# Altium footprint library Keebs.PcbLib: 219 footprints (part 2 of 14)
Each footprint in its own frame and in the unit in brackets; x right, y up, seen from the top. Pads: shape width x height; smd on the part's side, far side on the other; paste and mask are expansions set on the pad; w line width, h text height; cw(c..) or ccw(c..) is an arc to the next point about the centre after c.
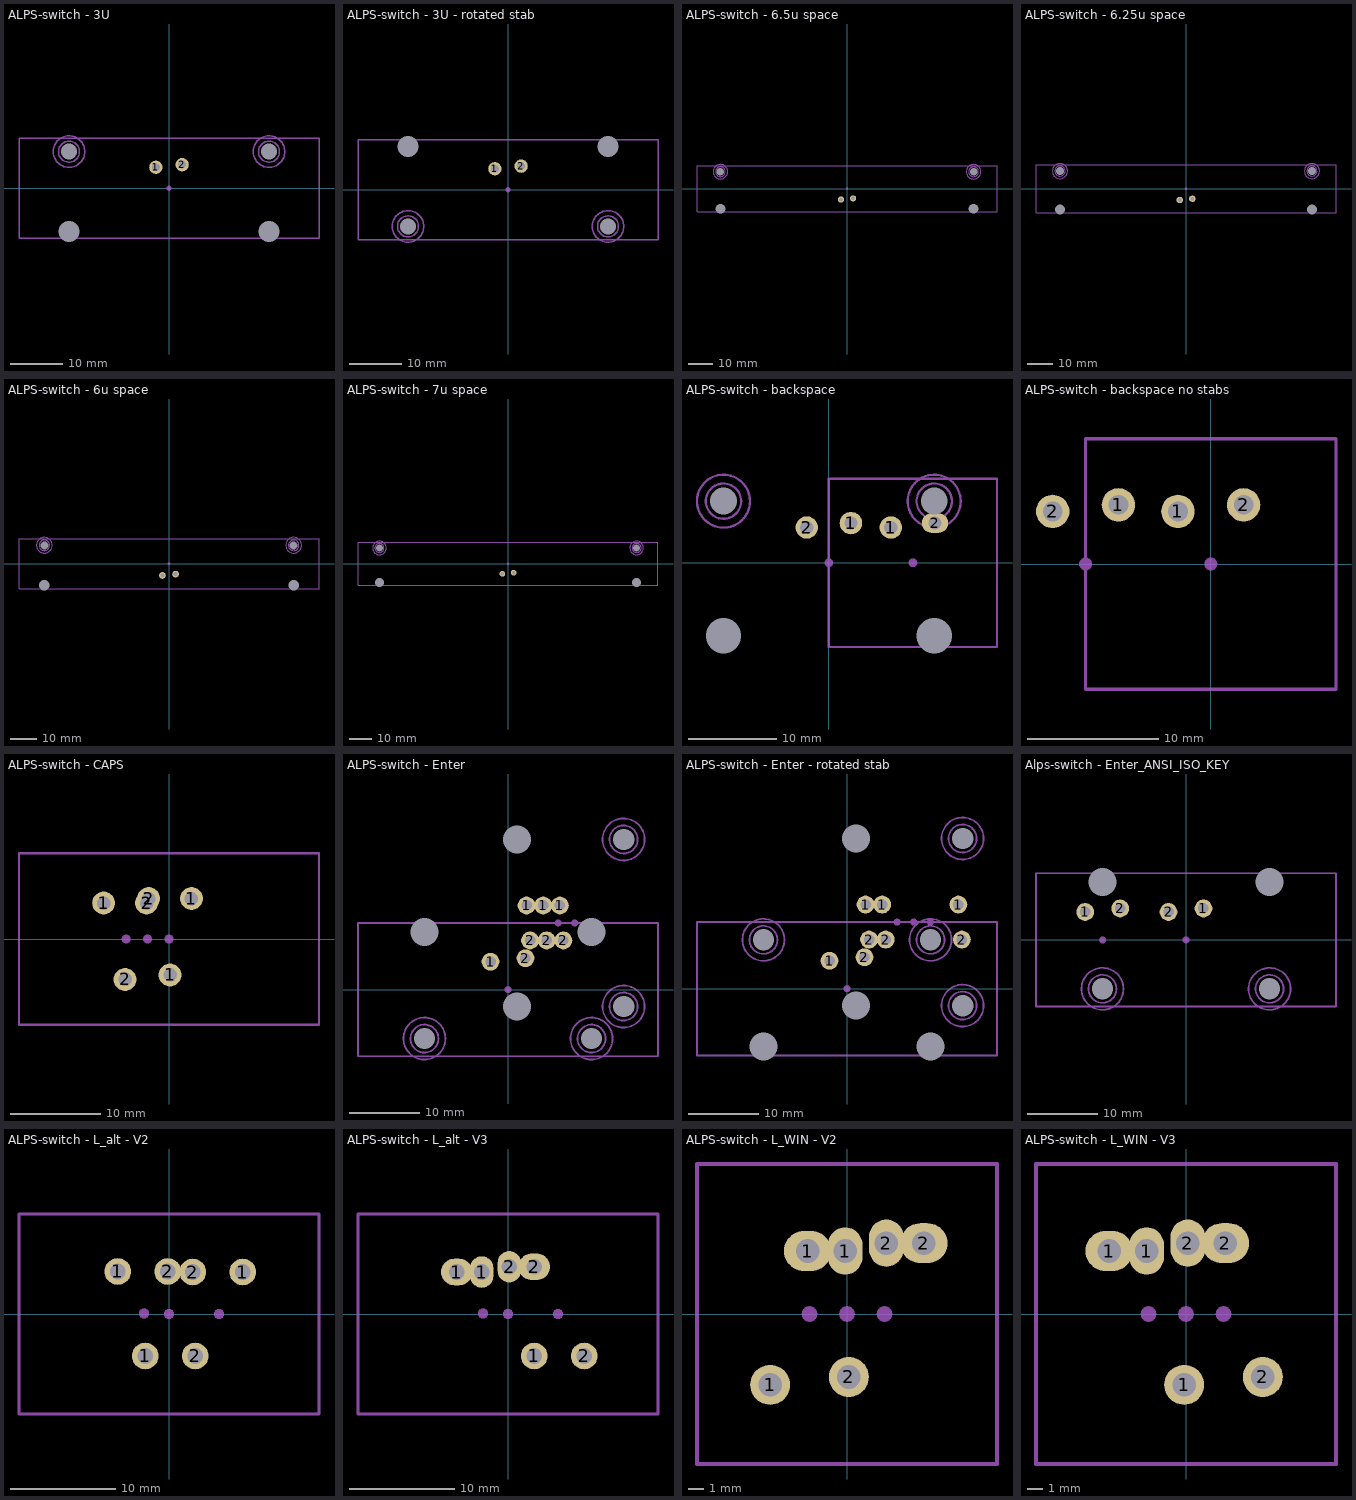
[diagram p1: the footprints below, top view; thin cyan lines are the x and y axes]

## ALPS-switch - 3U [mm]
pads (7):
  round 2.54 hole 1.5 mask-0.5: 1(-2.5,4) 2(2.5,4.5)
  round 1.524 hole 4 unplated: ""(-19.05,-8.255) ""(19.05,-8.255)
  round 1.524 hole 3.048 unplated: ""(-19.05,6.985) ""(19.05,6.985)
  round 1 on Mech13: ""(0,0)
Mechanical 13:
  lines w0.254: -28.575,-9.525 28.575,-9.525 28.575,9.525 -28.575,9.525 -28.575,-9.525
  text ".Designator" at -3.825,-3.375 h0.7
Mechanical 15:
  circle w0.254: c-19.05,6.985 r3
  circle w0.254: c-19.05,6.985 r2
  circle w0.254: c19.05,6.985 r3
  circle w0.254: c19.05,6.985 r2

## ALPS-switch - 3U - rotated stab [mm]
pads (7):
  round 2.54 hole 1.5 mask-0.5: 1(-2.5,4) 2(2.5,4.5)
  round 1.524 hole 3.048 unplated: ""(-19.05,-6.985) ""(19.05,-6.985)
  round 1.524 hole 4 unplated: ""(-19.05,8.255) ""(19.05,8.255)
  round 1 on Mech13: ""(0,0)
Mechanical 13:
  lines w0.254: -28.575,-9.525 28.575,-9.525 28.575,9.525 -28.575,9.525 -28.575,-9.525
  text ".Designator" at -3.825,-3.375 h0.7
Mechanical 15:
  circle w0.254: c19.05,-6.985 r3
  circle w0.254: c19.05,-6.985 r2
  circle w0.254: c-19.05,-6.985 r3
  circle w0.254: c-19.05,-6.985 r2

## ALPS-switch - 6.5u space [mm]
pads (7):
  round 2.54 hole 1.5 mask-0.5: 1(2.5,-4) 2(-2.5,-4.5)
  round 1.524 hole 4 unplated: ""(-52.25,-8.255) ""(52.25,-8.255)
  round 1.524 hole 3.048 unplated: ""(-52.25,6.985) ""(52.25,6.985)
  round 1 on Mech13: ""(0,0)
Mechanical 13:
  lines w0.254: -61.912,-9.525 -61.912,9.525 61.912,9.525 61.912,-9.525 -61.912,-9.525
  text ".Designator" at -3.575,-3.7 h0.7
Mechanical 15:
  circle w0.254: c-52.25,6.985 r3
  circle w0.254: c-52.25,6.985 r2
  circle w0.254: c52.25,6.985 r3
  circle w0.254: c52.25,6.985 r2

## ALPS-switch - 6.25u space [mm]
pads (7):
  round 2.54 hole 1.5 mask-0.5: 1(2.5,-4) 2(-2.5,-4.5)
  round 1.524 hole 4 unplated: ""(-50,-8.255) ""(50,-8.255)
  round 1.524 hole 3.048 unplated: ""(-50,6.985) ""(50,6.985)
  round 1 on Mech13: ""(0,0)
Mechanical 13:
  lines w0.254: -59.531,-9.525 -59.531,9.525 59.531,9.525 59.531,-9.525 -59.531,-9.525
  text ".Designator" at -3.575,-3.7 h0.7
Mechanical 15:
  circle w0.254: c50,6.985 r2
  circle w0.254: c50,6.985 r3
  circle w0.254: c-50,6.985 r2
  circle w0.254: c-50,6.985 r3

## ALPS-switch - 6u space [mm]
pads (7):
  round 2.54 hole 1.5 mask-0.5: 1(2.5,-4) 2(-2.5,-4.5)
  round 1.524 hole 4 unplated: ""(-47.5,-8.255) ""(47.5,-8.255)
  round 1.524 hole 3.048 unplated: ""(-47.5,6.985) ""(47.5,6.985)
  round 1 on Mech13: ""(0,0)
Mechanical 13:
  lines w0.254: -57.15,-9.525 57.15,-9.525 57.15,9.525 -57.15,9.525 -57.15,-9.525
  text ".Designator" at -3.575,-3.7 h0.7
Mechanical 15:
  circle w0.254: c-47.5,6.985 r3
  circle w0.254: c-47.5,6.985 r2
  circle w0.254: c47.5,6.985 r3
  circle w0.254: c47.5,6.985 r2

## ALPS-switch - 7u space [mm]
pads (7):
  round 2.54 hole 1.5 mask-0.5: 1(2.5,-4) 2(-2.5,-4.5)
  round 1.524 hole 4 unplated: ""(-57.15,-8.255) ""(57.15,-8.255)
  round 1.524 hole 3.048 unplated: ""(-57.15,6.985) ""(57.15,6.985)
  round 1 on Mech13: ""(0,0)
Mechanical 13:
  lines w0.254: -66.675,-9.525 -66.675,9.525 66.675,9.525 66.675,-9.525 -66.675,-9.525
  text ".Designator" at -3.575,-3.7 h0.7
Mechanical 15:
  circle w0.254: c57.15,6.985 r2
  circle w0.254: c57.15,6.985 r3
  circle w0.254: c-57.15,6.985 r2
  circle w0.254: c-57.15,6.985 r3

## ALPS-switch - backspace [mm]
pads (10):
  round 2.54 hole 1.5 mask-0.5: 1(2.5,4.5) 1(7.025,4) 2(-2.5,4)
  oval 3x2.2 hole 1.5 mask-0.7: 2(12.025,4.5)
  round 1.524 hole 4 unplated: ""(-11.938,-8.255) ""(11.938,-8.255)
  round 1.524 hole 3.048 unplated: ""(-11.938,6.985) ""(11.938,6.985)
  round 1 on Mech13: ""(0,0) ""(9.525,0)
Mechanical 13:
  lines w0.254: 0,-9.525 0,9.525 19.05,9.525 19.05,-9.525 0,-9.525
  text ".Designator" at 6.65,3.75 h0.7
Mechanical 15:
  circle w0.254: c-11.938,6.985 r3
  circle w0.254: c-11.938,6.985 r2
  circle w0.254: c11.938,6.985 r3
  circle w0.254: c11.938,6.985 r2

## ALPS-switch - backspace no stabs [mm]
pads (6):
  round 2.54 hole 1.5 mask-0.5: 1(-7.025,4.5) 1(-2.5,4) 2(-12.025,4) 2(2.5,4.5)
  round 1 on Mech13: ""(-9.525,0) ""(0,0)
Mechanical 13:
  lines w0.254: -9.525,-9.525 9.525,-9.525 9.525,9.525 -9.525,9.525 -9.525,-9.525
  text ".Designator" at -2.875,3.75 h0.7

## ALPS-switch - CAPS [mm] "Footprint supports both common versions of stepped capslock"
pads (9):
  round 2.54 hole 1.5 mask-0.5: 1(-7.263,4) 1(0.119,-4) 1(2.5,4.5) 2(-4.881,-4.5) 2(-2.5,4) 2(-2.262,4.5)
  round 1 on Mech13: ""(-4.763,0) ""(-2.381,0) ""(0,0)
Mechanical 13:
  lines w0.254: -16.669,-9.525 16.669,-9.525 ; -16.669,-9.525 16.669,-9.525 ; -16.669,-9.525 -16.669,9.525 16.669,9.525 16.669,-9.525
  text ".Designator" at -7.85,-7.5 h0.7

## ALPS-switch - Enter [mm]
pads (20):
  round 2.54 hole 1.5 mask-0.5: 1(-2.5,4) 1(2.649,12.03) 1(5.03,12.03) 1(7.411,12.03) 2(2.5,4.5) 2(3.149,7.03) 2(5.53,7.03) 2(7.911,7.03)
  round 1.524 hole 3.048 unplated: ""(-11.938,-6.985) ""(11.938,-6.985) ""(16.515,-2.408) ""(16.515,21.468)
  round 1.524 hole 4 unplated: ""(-11.938,8.255) ""(1.275,-2.408) ""(1.275,21.468) ""(11.938,8.255)
  round 1 on Mech13: ""(0,0) ""(7.149,9.53) ""(9.53,9.53) ""(11.911,9.53)
Mechanical 13:
  lines w0.254: -21.431,-9.525 -21.431,9.525 21.431,9.525 21.431,-9.525 -21.431,-9.525
  text ".Designator" at 7.85,1.8 h0.7
Mechanical 15:
  circle w0.254: c16.515,21.468 r2
  circle w0.254: c16.515,21.468 r3
  circle w0.254: c16.515,-2.408 r2
  circle w0.254: c16.515,-2.408 r3
  circle w0.254: c11.938,-6.985 r2
  circle w0.254: c11.938,-6.985 r3
  circle w0.254: c-11.938,-6.985 r2
  circle w0.254: c-11.938,-6.985 r3

## ALPS-switch - Enter - rotated stab [mm]
pads (20):
  round 2.54 hole 1.5 mask-0.5: 1(-2.5,4) 1(2.649,12.03) 1(5.03,12.03) 1(15.911,12.03) 2(2.5,4.5) 2(3.149,7.03) 2(5.53,7.03) 2(16.411,7.03)
  round 1.524 hole 4 unplated: ""(-11.938,-8.255) ""(1.275,-2.408) ""(1.275,21.468) ""(11.938,-8.255)
  round 1.524 hole 3.048 unplated: ""(-11.938,6.985) ""(11.938,6.985) ""(16.515,-2.408) ""(16.515,21.468)
  round 1 on Mech13: ""(0,0) ""(7.149,9.53) ""(9.53,9.53) ""(11.911,9.53)
Mechanical 13:
  lines w0.254: -21.431,-9.525 -21.431,9.525 21.431,9.525 21.431,-9.525 -21.431,-9.525
  text ".Designator" at 7.85,1.8 h0.7
Mechanical 15:
  circle w0.254: c11.938,6.985 r2
  circle w0.254: c11.938,6.985 r3
  circle w0.254: c16.515,-2.408 r2
  circle w0.254: c16.515,-2.408 r3
  circle w0.254: c16.515,21.468 r2
  circle w0.254: c16.515,21.468 r3
  circle w0.254: c-11.938,6.985 r2
  circle w0.254: c-11.938,6.985 r3

## Alps-switch - Enter_ANSI_ISO_KEY [mm]
pads (12):
  round 2.54 hole 1.5 mask-0.5: 1(-14.406,4) 1(2.5,4.5) 2(-9.406,4.5) 2(-2.5,4)
  round 1.524 hole 3.048 unplated: ""(-11.938,-6.985) ""(11.938,-6.985)
  round 1.524 hole 4 unplated: ""(-11.938,8.255) ""(11.938,8.255)
  round 1 on Mech13: ""(-11.906,0) ""(-11.906,0) ""(0,0) ""(0,0)
Mechanical 13:
  lines w0.254: -21.431,-9.525 21.431,-9.525 21.431,9.525 -21.431,9.525 -21.431,-9.525
  text ".Designator" at 7.85,1.8 h0.7
Mechanical 15:
  circle w0.254: c11.938,-6.985 r2
  circle w0.254: c11.938,-6.985 r3
  circle w0.254: c-11.938,-6.985 r2
  circle w0.254: c-11.938,-6.985 r3

## ALPS-switch - L_alt - V2 [mm]
pads (9):
  round 2.54 hole 1.5 mask-0.5: 1(-4.881,4.048) 1(-2.262,-4) 1(7.025,4) 2(-0.119,4.048) 2(2.262,4) 2(2.5,-4)
  round 1 on Mech13: ""(-2.381,0.048) ""(0,0) ""(4.763,0)
Mechanical 13:
  lines w0.254: -14.287,-9.525 14.287,-9.525 14.287,9.525 -14.287,9.525 -14.287,-9.525
  text ".Designator" at -10.775,-6.175 h0.7

## ALPS-switch - L_alt - V3 [mm]
pads (9):
  oval 3x2.54 hole 1.5 mask-0.7: 1(-4.881,4) 2(2.5,4.5)
  oval 2.2x3 hole 1.5 mask-0.7: 1(-2.5,4) 2(0.119,4.5)
  round 2.54 hole 1.5 mask-0.5: 1(2.5,-4) 2(7.263,-4)
  round 1 on Mech13: ""(-2.381,0.048) ""(0,0) ""(4.763,0)
Mechanical 13:
  lines w0.254: -14.287,-9.525 -14.287,9.525 14.287,9.525 14.287,-9.525 -14.287,-9.525
  text ".Designator" at -10.775,-6.175 h0.7

## ALPS-switch - L_WIN - V2 [mm]
pads (9):
  round 2.54 hole 1.5 mask-0.5: 1(-4.881,-4.5) 2(0.119,-4)
  oval 3x2.54 hole 1.5 mask-0.7: 1(-2.5,4) 2(4.881,4.5)
  oval 2.2x3 hole 1.5 mask-0.7: 1(-0.119,4) 2(2.5,4.5)
  round 1 on Mech13: ""(-2.381,0) ""(0,0) ""(2.381,0)
Mechanical 13:
  lines w0.254: -9.525,-9.525 9.525,-9.525 9.525,9.525 -9.525,9.525 -9.525,-9.525
  text ".Designator" at -4.225,-8.325 h0.7

## ALPS-switch - L_WIN - V3 [mm]
pads (9):
  oval 3x2.54 hole 1.5 mask-0.7: 1(-4.881,4) 2(2.5,4.5)
  oval 2.2x3 hole 1.5 mask-0.7: 1(-2.5,4) 2(0.119,4.5)
  round 2.54 hole 1.5 mask-0.5: 1(-0.119,-4.5) 2(4.881,-4)
  round 1 on Mech13: ""(-2.381,0) ""(0,0) ""(2.381,0)
Mechanical 13:
  lines w0.254: -9.525,-9.525 9.525,-9.525 9.525,9.525 -9.525,9.525 -9.525,-9.525
  text ".Designator" at -4.225,-8.325 h0.7